# Altium footprint library HVPSlibrary.PcbLib: 149 footprints (part 11 of 11)
Each footprint in its own frame and in the unit in brackets; x right, y up, seen from the top. Pads: shape width x height; smd on the part's side, far side on the other; paste and mask are expansions set on the pad; w line width, h text height; cw(c..) or ccw(c..) is an arc to the next point about the centre after c.
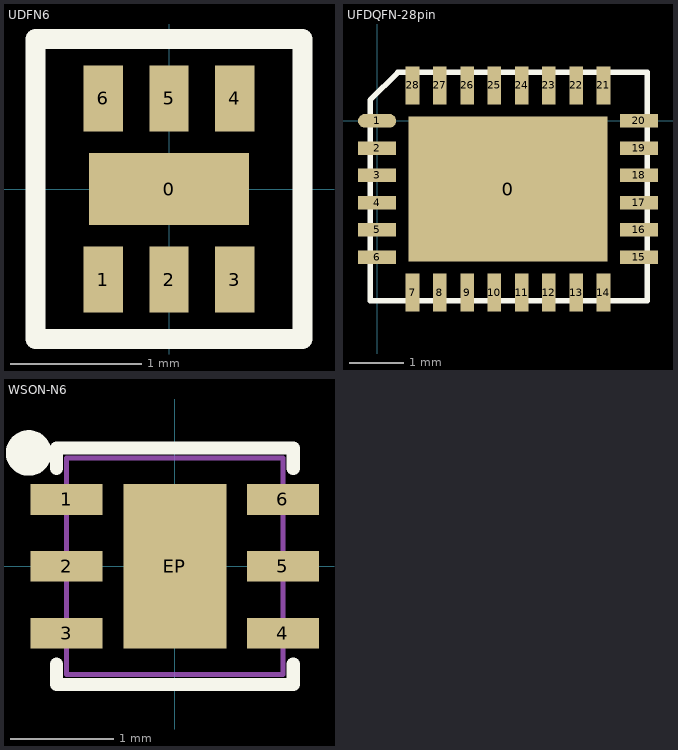
[diagram p10: the footprints below, top view; thin cyan lines are the x and y axes]

## UDFN6 [mm] "5 pin"
pads (7):
  rect 1.22x0.55 smd: 0(0,0)
  rect 0.3x0.5 smd: 1(-0.5,-0.69) 2(0,-0.69) 3(0.5,-0.69) 4(0.5,0.69) 5(0,0.69) 6(-0.5,0.69)
Top Overlay:
  lines w0.152: -1.016,-1.143 1.016,-1.143 1.016,1.143 -0.762,1.143 -1.016,1.143 -1.016,-1.143

## UFDQFN-28pin [mm]
pads (29):
  rect 3.65x2.65 smd: 0(2.4,-1.25)
  oval 0.7x0.25 smd: 1(0,0)
  rect 0.7x0.25 smd: 2(0,-0.5) 3(0,-1) 4(0,-1.5) 5(0,-2) 6(0,-2.5) 15(4.8,-2.5) 16(4.8,-2) 17(4.8,-1.5) 18(4.8,-1) 19(4.8,-0.5) 20(4.8,0)
  rect 0.25x0.7 smd: 7(0.65,-3.15) 8(1.15,-3.15) 9(1.65,-3.15) 10(2.15,-3.15) 11(2.65,-3.15) 12(3.15,-3.15) 13(3.65,-3.15) 14(4.15,-3.15) 21(4.15,0.65) 22(3.65,0.65) 23(3.15,0.65) 24(2.65,0.65) 25(2.15,0.65) 26(1.65,0.65) 27(1.15,0.65) 28(0.65,0.65)
Top Overlay:
  lines w0.1: -0.127,-3.302 4.953,-3.302 4.953,0.889 0.381,0.889 -0.127,0.381 -0.127,-3.302

## WSON-N6 [mm]
height 0.8
pads (7):
  rect 0.7x0.3 smd paste-0.025 mask+0.07: 1(-1.05,0.65) 2(-1.05,0) 3(-1.05,-0.65) 4(1.05,-0.65) 5(1.05,0) 6(1.05,0.65)
  rect 1x1.6 smd paste-0.1 mask+0.07: EP(0,0)
Top Overlay:
  circle w0.254: c-1.419,1.1 r0.094
  lines w0.127: -1.15,-0.95 -1.15,-1.15 1.15,-1.15 1.15,-0.95 ; -1.15,0.95 -1.15,1.15 1.15,1.15 1.15,0.95
Mechanical 13:
  lines w0.05: -1.05,-1.05 -1.05,1.05 1.05,1.05 1.05,-1.05 -1.05,-1.05
3D body: height 0.8, standoff 0.1, extent -1.05,-1.05 1.05,1.05